# Altium schematic symbol library POWER_MOS.SchLib: 20 symbols
Pins are listed as number, name and electrical type; pins without a type are passive.

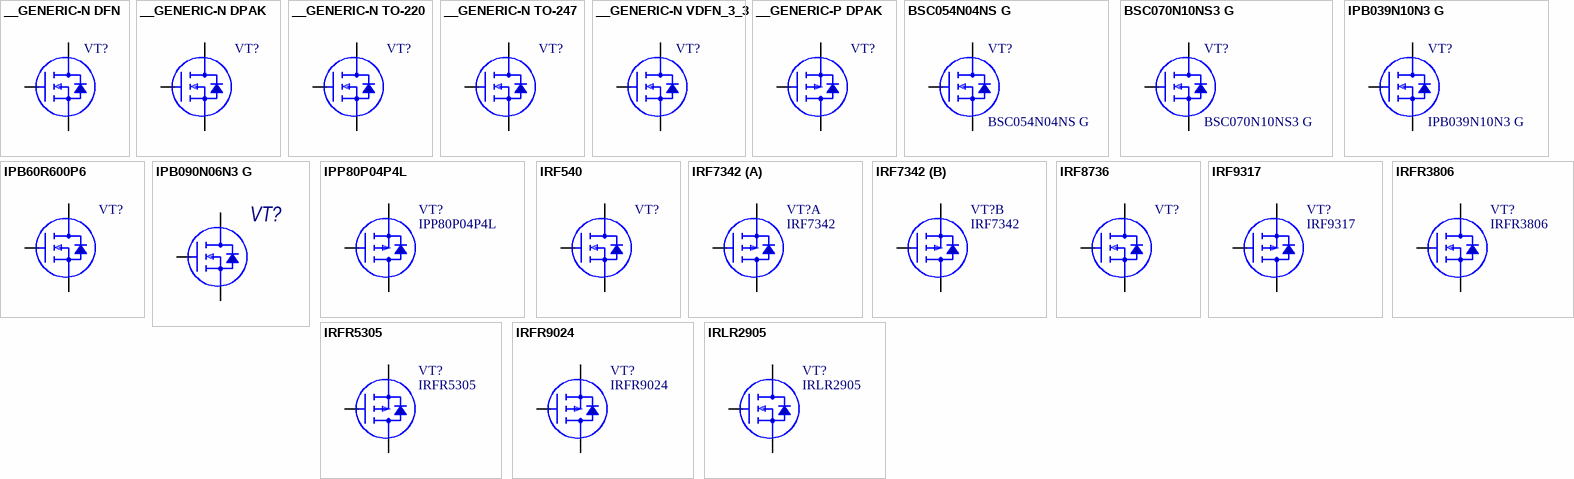
[diagram p0: symbols __GENERIC-N DFN to IRLR2905]

## __GENERIC-N DFN
designator VT?  (value not drawn)
ComponentDescription: __GENERIC-N DFN
footprint TDSON-8; pin to pad 1>G 2>D 3>S
pins: 1 G, 2 D, 3 S

## __GENERIC-N DPAK
designator VT?, comment __GENERIC DPAK  (value not drawn)
ComponentDescription: __GENERIC DPAK
footprint DPAK229P970X230-3N (D-PAK, 3-Pads, Body 6,20x6,71mm (max), IPC Medium Density)
pins: 1 G, 2 D, 3 S

## __GENERIC-N TO-220
designator VT?, comment __GENERIC TO-220  (value not drawn)
ComponentDescription: __GENERIC TO-220
footprint TO220
pins: 1 G, 2 D, 3 S

## __GENERIC-N TO-247
designator VT?, comment __GENERIC TO-247  (value not drawn)
ComponentDescription: __GENERIC TO-247
footprint TO247-h20
pins: 1 G, 2 D, 3 S

## __GENERIC-N VDFN_3_3
designator VT?  (value not drawn)
ComponentDescription: __GENERIC-N VDFN_3_3
footprint WDFN-8; pin to pad 1>G 2>D 3>S
pins: 1 G, 2 D, 3 S

## __GENERIC-P DPAK
designator VT?  (value not drawn)
ComponentDescription: __GENERIC-P DPAK
footprint DPAK229P970X230-3N (D-PAK, 3-Pads, Body 6,20x6,71mm (max), IPC Medium Density)
pins: 1 G, 2 D, 3 S

## BSC054N04NS G
designator VT?
VDS 40 V  RDS(on),max 5.4 mOhm  ID 81 A; ComponentDescription: BSC054N04NS G
footprint TDSON-8; pin to pad 1>G 2>D 3>S
pins: 1 G, 2 D, 3 S

## BSC070N10NS3 G
designator VT?
VDS 100 V  RDS(on),max 7 mOhm ID 90 A; ComponentDescription: BSC070N10NS3 G
footprint TDSON-8; pin to pad 1>G 2>D 3>S
pins: 1 G, 2 D, 3 S

## IPB039N10N3 G
designator VT?
ComponentDescription: IPB039N10N3 G
footprint D2PAK TO263-7 (D2-PAK, 7-Pads, Body 7,93x8,69mm (max), IPC Medium Density); pin to pad 1>G 2>D 3>S
pins: 1 G, 2 D, 3 S

## IPB60R600P6
designator VT?  (value not drawn)
ComponentDescription: IPB60R600P6
footprint D2PAK TO263
pins: 1 G, 2 D, 3 S

## IPB090N06N3 G
designator VT?  (value not drawn)
OptiMOS™ 60V 90mOhm; ComponentDescription: IPB090N06N3 G
footprint D2PAK TO263
pins: 1 G, 2 D, 3 S

## IPP80P04P4L
designator VT?
ComponentDescription: IPP80P04P4L
footprint TO220
pins: 1 G, 2 D, 3 S

## IRF540
designator VT?  (value not drawn)
ComponentDescription: IRF540
footprint TO220
pins: 1 G, 2 D, 3 S

## IRF7342
designator VT?
ComponentDescription: IRF7342
footprint IRF7342
part A pins: D1, G1, S1
part B pins: D2, G2, S2

## IRF8736
designator VT?  (value not drawn)
ComponentDescription: IRF8736
footprint IRF9317
pins: 1 S, 2 G, 3 D

## IRF9317
designator VT?
ComponentDescription: IRF9317
footprint IRF9317
pins: 1 S, 2 G, 3 D

## IRFR3806
designator VT?
60V 12.6mΩ 43A; ComponentDescription: IRFR3806
footprint DPAK229P970X230-3N (D-PAK, 3-Pads, Body 6,20x6,71mm (max), IPC Medium Density)
pins: 1 G, 2 D, 3 S

## IRFR5305
designator VT?
-55V  65mΩ -31A; ComponentDescription: IRFR5305
footprint DPAK229P970X230-3N (D-PAK, 3-Pads, Body 6,20x6,71mm (max), IPC Medium Density)
pins: 1 G, 2 D, 3 S

## IRFR9024
designator VT?
ComponentDescription: IRFR9024
footprint DPAK229P970X230-3N (D-PAK, 3-Pads, Body 6,20x6,71mm (max), IPC Medium Density)
pins: 1 G, 2 D, 3 S

## IRLR2905
designator VT?
ComponentDescription: IRLR2905
footprint DPAK229P970X230-3N (D-PAK, 3-Pads, Body 6,20x6,71mm (max), IPC Medium Density)
pins: 1 G, 2 D, 3 S